# Altium schematic symbol library fci-media-card.SchLib: 1 symbol
Pins are listed as number, name and electrical type; pins without a type are passive.

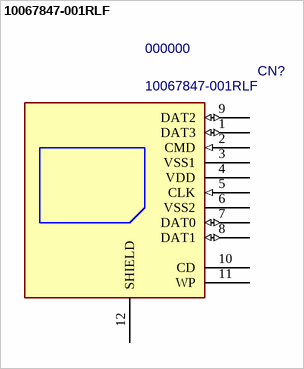
[diagram p0: symbol 10067847-001RLF]

## 10067847-001RLF
designator CN?, comment 000000  value 10067847-001RLF
SD card reader Push - Push Type; PN: 000000; Package: SMT; ExtraInfo: *
footprint 10067847-001RLF (SD card reader Push - Push Type)
pins: 1 DAT3 (io), 2 CMD (in), 3 VSS1 (power), 4 VDD (power), 5 CLK (in), 6 VSS2 (power), 7 DAT0 (io), 8 DAT1 (io), 9 DAT2 (io), 10 CD, 11 WP, 12 SHIELD